# Altium footprint library MY_LIB.PcbLib: 129 footprints (part 3 of 9)
Each footprint in its own frame and in the unit in brackets; x right, y up, seen from the top. Pads: shape width x height; smd on the part's side, far side on the other; paste and mask are expansions set on the pad; w line width, h text height; cw(c..) or ccw(c..) is an arc to the next point about the centre after c.
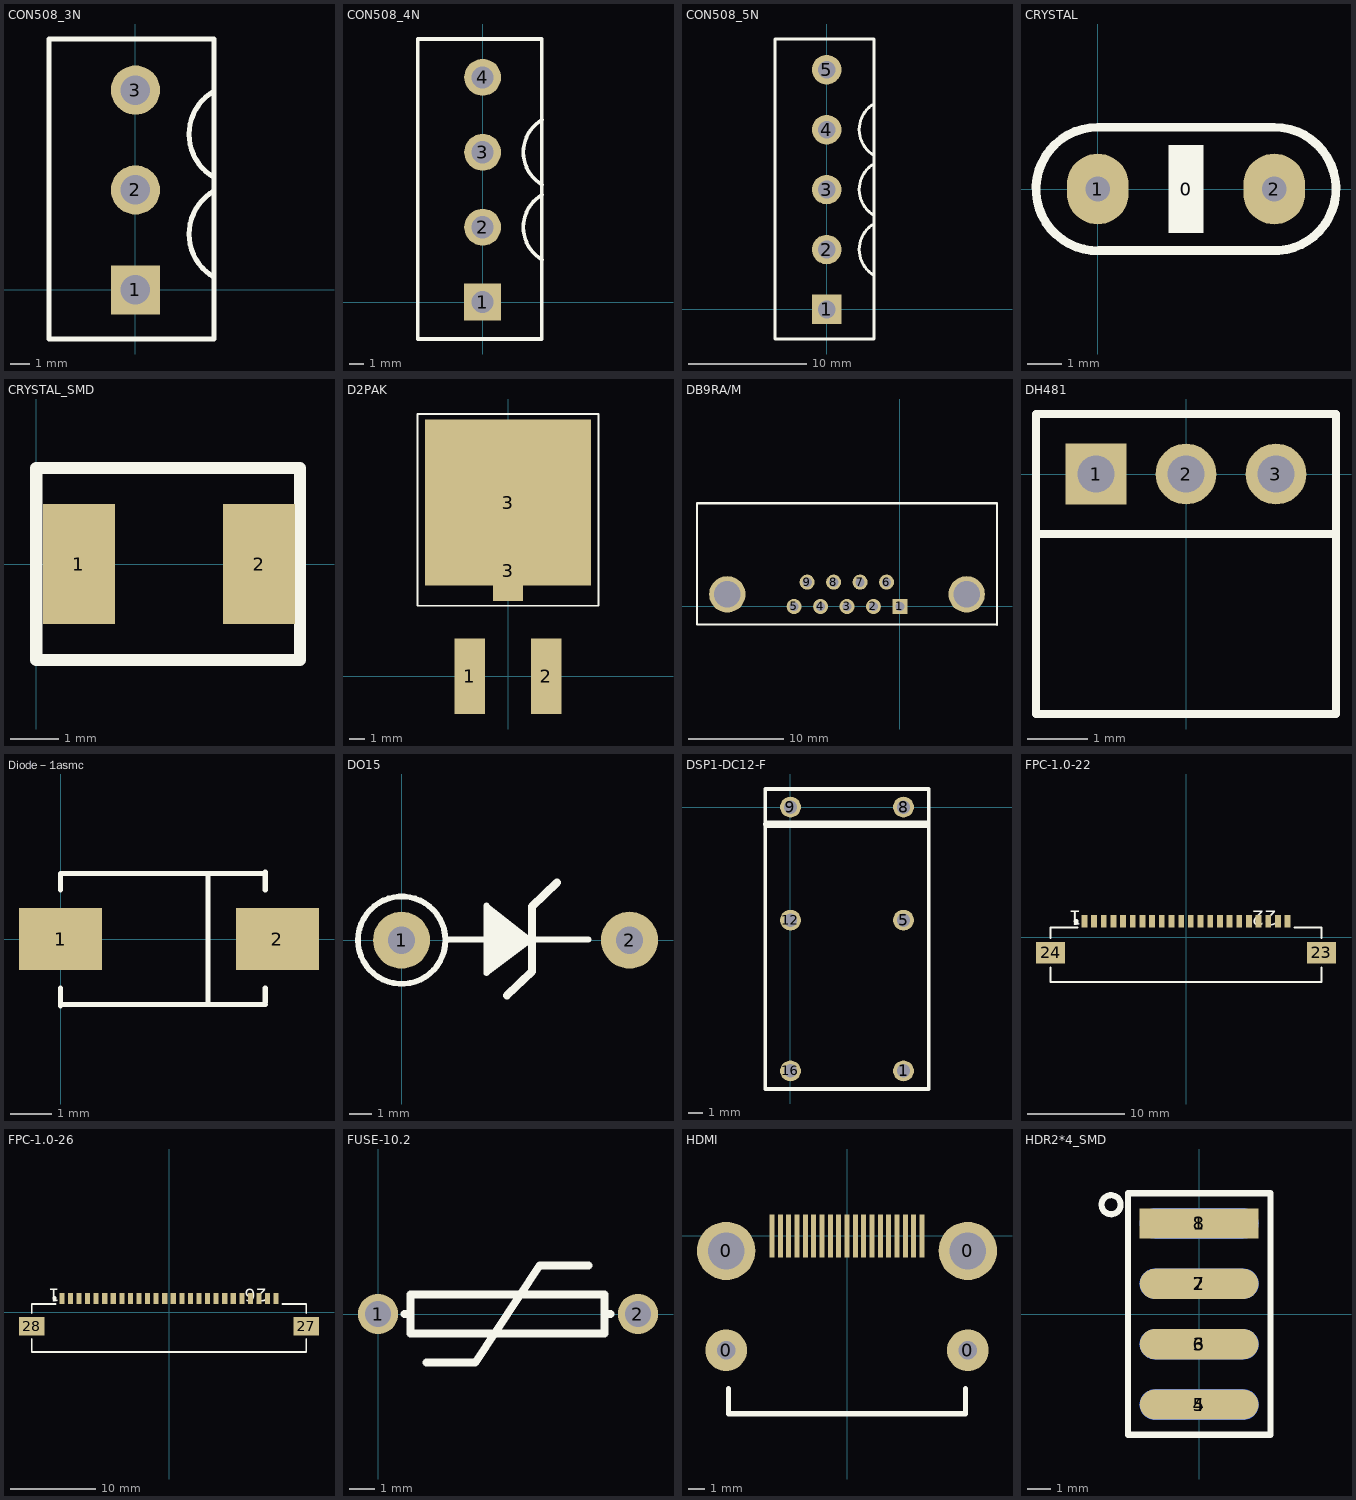
[diagram p2: the footprints below, top view; thin cyan lines are the x and y axes]

## CON508_3N [mm]
pads (3):
  rect 2.5x2.5 hole 1.5: 1(0,0)
  round 2.5 hole 1.5: 2(0,5.08) 3(0,10.16)
Top Overlay:
  lines w0.254: 4,0.635 cw(c5.27,2.835) 4,5.034 ; 4,5.715 cw(c5.27,7.915) 4,10.114 ; -4.4,-2.5 -4.4,12.76 4,12.76 4,-2.5 -4.4,-2.5

## CON508_4N [mm]
pads (4):
  rect 2.5x2.5 hole 1.5: 1(0,0)
  round 2.5 hole 1.5: 2(0,5.08) 3(0,10.16) 4(0,15.24)
Top Overlay:
  lines w0.254: 4.025,2.88 cw(c5.295,5.08) 4.025,7.28 ; 4.025,7.96 cw(c5.295,10.16) 4.025,12.36 ; -4.4,-2.5 -4.4,17.84 4,17.84 4,-2.5 -4.4,-2.5

## CON508_5N [mm]
pads (5):
  rect 2.5x2.5 hole 1.5: 1(0,0)
  round 2.5 hole 1.5: 2(0,5.08) 3(0,10.16) 4(0,15.24) 5(0,20.32)
Top Overlay:
  lines w0.254: 4.025,2.88 cw(c5.295,5.08) 4.025,7.28 ; 4.025,7.96 cw(c5.295,10.16) 4.025,12.36 ; 4.025,13.04 cw(c5.295,15.24) 4.025,17.44 ; -4.4,-2.5 -4.4,22.92 4,22.92 4,-2.5 -4.4,-2.5

## CRYSTAL [mil]
pads (3):
  rect 40x100 on Top Overlay: 0(100,0)
  oval 70x80 hole 28: 1(0,0) 2(200,0)
Top Overlay:
  lines w10: 1.57,-69.98 cw(c0,0) 0,70 200,70 cw(c200,0) 204.99,-69.82 1.56,-69.82

## CRYSTAL_SMD [mm]
pads (2):
  rect 1.5x2.5 smd: 1(0.889,0) 2(4.648,0)
Top Overlay:
  lines w0.254: 0,-2 5.5,-2 5.5,2 0,2 0,-2

## D2PAK [mm]
pads (4):
  rect 2x5 smd: 1(-2.54,0) 2(2.54,0)
  rect 2x4 smd: 3(0,7)
  rect 11x11 smd: 3(0,11.5)
Top Overlay:
  lines w0.127: -6,4.674 -6,17.374 6,17.374 6,4.674 -6,4.674

## DB9RA/M [mil]
pads (11):
  rect 62x62 hole 38: 1(0,0)
  round 62 hole 38: 2(-109,0) 3(-218,0) 4(-327,0) 5(-436,0) 6(-55,100) 7(-164,100) 8(-273,100) 9(-382,100)
  round 150 hole 110: ""(-711,50) ""(275,50)
Top Overlay:
  lines w8: -836,425 -836,-75 400,-75
  lines w10: -836,425 400,425 400,-75

## DH481 [mil]
pads (3):
  rect 40x40 hole 24: 1(-59.06,0)
  round 40 hole 24: 2(0,0) 3(59.06,0)
Top Overlay:
  lines w5: -98.43,-39.37 98.43,-39.37 ; -98.43,-157.48 -98.43,39.37 98.43,39.37 98.43,-157.48 -98.43,-157.48

## Diode－1asmc [mil]
pads (2):
  rect 80x60 smd: 1(0,0) 2(208.66,0)
Top Overlay:
  lines w5: 0,-64.37 0,-47.24 ; 0,-62.99 196.85,-62.99 ; 0,47.24 0,62.99 196.85,62.99 ; 141.73,-62.99 141.73,62.99 ; 196.85,-60.43 196.85,-47.24 ; 196.85,47.24 196.85,64.37

## DO15 [mm]
pads (2):
  round 2.5 hole 1.2: 1(0,0) 2(10,0)
Top Overlay:
  circle w0.254: c0.008,0 r1.917
  lines w0.254: 2,0.025 8.204,0.025 ; 3.721,1.5 5.646,0 3.721,-1.45 3.721,1.525
  lines w0.35: 3.821,1.2 5.246,0.025 3.846,-1.1 3.946,0.925 4.871,-0.075 4.021,-0.4 4.171,0.525 4.321,-0.15 4.096,-0.725 4.646,-0.1 ; 4.621,-2.425 5.721,-1.375 5.721,1.475 6.821,2.525

## DSP1-DC12-F [mm]
pads (6):
  round 1.4 hole 0.9: 1(7.62,-17.78) 5(7.62,-7.62) 8(7.62,0) 9(0,0) 12(0,-7.62) 16(0,-17.78)
Top Overlay:
  lines w0.254: -1.7,-19 -1.7,1.22 9.32,1.22 9.32,-19 -1.7,-19
  lines w0.508: -1.6,-1.143 9.2,-1.143

## FPC-1.0-22 [mm]
pads (24):
  rect 0.6x1.3 smd: 1(-10.5,1.625) 2(-9.5,1.625) 3(-8.5,1.625) 4(-7.5,1.625) 5(-6.5,1.625) 6(-5.5,1.625) 7(-4.5,1.625) 8(-3.5,1.625) 9(-2.5,1.625) 10(-1.5,1.625) 11(-0.5,1.625) 12(0.5,1.625) 13(1.5,1.625) 14(2.5,1.625) 15(3.5,1.625) 16(4.5,1.625) 17(5.5,1.625) 18(6.5,1.625) 19(7.5,1.625) 20(8.5,1.625) 21(9.5,1.625) 22(10.5,1.625)
  rect 3x2.2 smd: 23(14,-1.625) 24(-14,-1.625)
Top Overlay:
  circle w0.25: c-11.35,1.625 r0.125
  lines w0.2: -14,-3.125 -14,-4.625 14,-4.625 14,-3.125 ; -14,-0.125 -14,0.975 -11.2,0.975 ; 11.2,0.975 14,0.975 14,-0.125
  text "1" at -10.75,2.725 h1.5
  text "22" at 9.4,2.725 h1.5

## FPC-1.0-26 [mm] "Connector; FH12 Series; 22 Position; 1.0mm Spaced Bottom Standard Contact"
height 2
pads (28):
  rect 0.6x1.3 smd: 1(-12.5,1.625) 2(-11.5,1.625) 3(-10.5,1.625) 4(-9.5,1.625) 5(-8.5,1.625) 6(-7.5,1.625) 7(-6.5,1.625) 8(-5.5,1.625) 9(-4.5,1.625) 10(-3.5,1.625) 11(-2.5,1.625) 12(-1.5,1.625) 13(-0.5,1.625) 14(0.5,1.625) 15(1.5,1.625) 16(2.5,1.625) 17(3.5,1.625) 18(4.5,1.625) 19(5.5,1.625) 20(6.5,1.625) 21(7.5,1.625) 22(8.5,1.625) 23(9.5,1.625) 24(10.5,1.625) 25(11.5,1.625) 26(12.5,1.625)
  rect 3x2.2 smd: 27(16,-1.625) 28(-16,-1.625)
Top Overlay:
  circle w0.25: c-13.35,1.625 r0.125
  lines w0.2: -16,-3.125 -16,-4.625 16,-4.625 16,-3.125 ; -16,-0.125 -16,0.975 -13.2,0.975 ; 13.2,0.975 16,0.975 16,-0.125
  text "1" at -12.75,2.725 h1.5
  text "26" at 11.4,2.725 h1.5

## FUSE-10.2 [mil]
pads (2):
  round 62 hole 40: 1(0,0) 2(401.57,0)
Top Overlay:
  lines w12: 41,0 50,0 ; 350,-30 50,-30 50,30 350,30 ; 350,0 359,0
  lines w12.01: 75,-75 150,-75 250,75 325,75 ; 350,-30 350,30

## HDMI [mm]
pads (23):
  round 2.5 hole 1.1: 0(-7.25,-6.86) 0(7.25,-6.86)
  round 3.5 hole 2.2: 0(-7.25,-0.9) 0(7.25,-0.9)
  rect 0.3x2.6 smd: 1(-4.5,0) 2(-4,0) 3(-3.5,0) 4(-3,0) 5(-2.5,0) 6(-2,0) 7(-1.5,0) 8(-1,0) 9(-0.5,0) 10(0,0) 11(0.5,0) 12(1,0) 13(1.5,0) 14(2,0) 15(2.5,0) 16(3,0) 17(3.5,0) 18(4,0) 19(4.5,0)
Top Overlay:
  lines w0.305: -7.112,-9.144 -7.112,-10.668 7.112,-10.668 7.112,-9.144

## HDR2*4_SMD [mm]
pads (8):
  rect 5x1.27 smd: 1(0,3.81)
  oval 5x1.27 smd: 2(0,1.27) 3(0,-1.27) 4(0,-3.81)
  oval 5x1.27 smd far side: 5(0,-3.81) 6(0,-1.27) 7(0,1.27) 8(0,3.81)
Top Overlay:
  circle w0.254: c-3.704,4.597 r0.402
  lines w0.254: -3,-5.08 3,-5.08 3,5.08 -3,5.08 -3,-5.08